# Altium footprint library SmartHome V3.PcbLib: 49 footprints (part 2 of 4)
Each footprint in its own frame and in the unit in brackets; x right, y up, seen from the top. Pads: shape width x height; smd on the part's side, far side on the other; paste and mask are expansions set on the pad; w line width, h text height; cw(c..) or ccw(c..) is an arc to the next point about the centre after c.
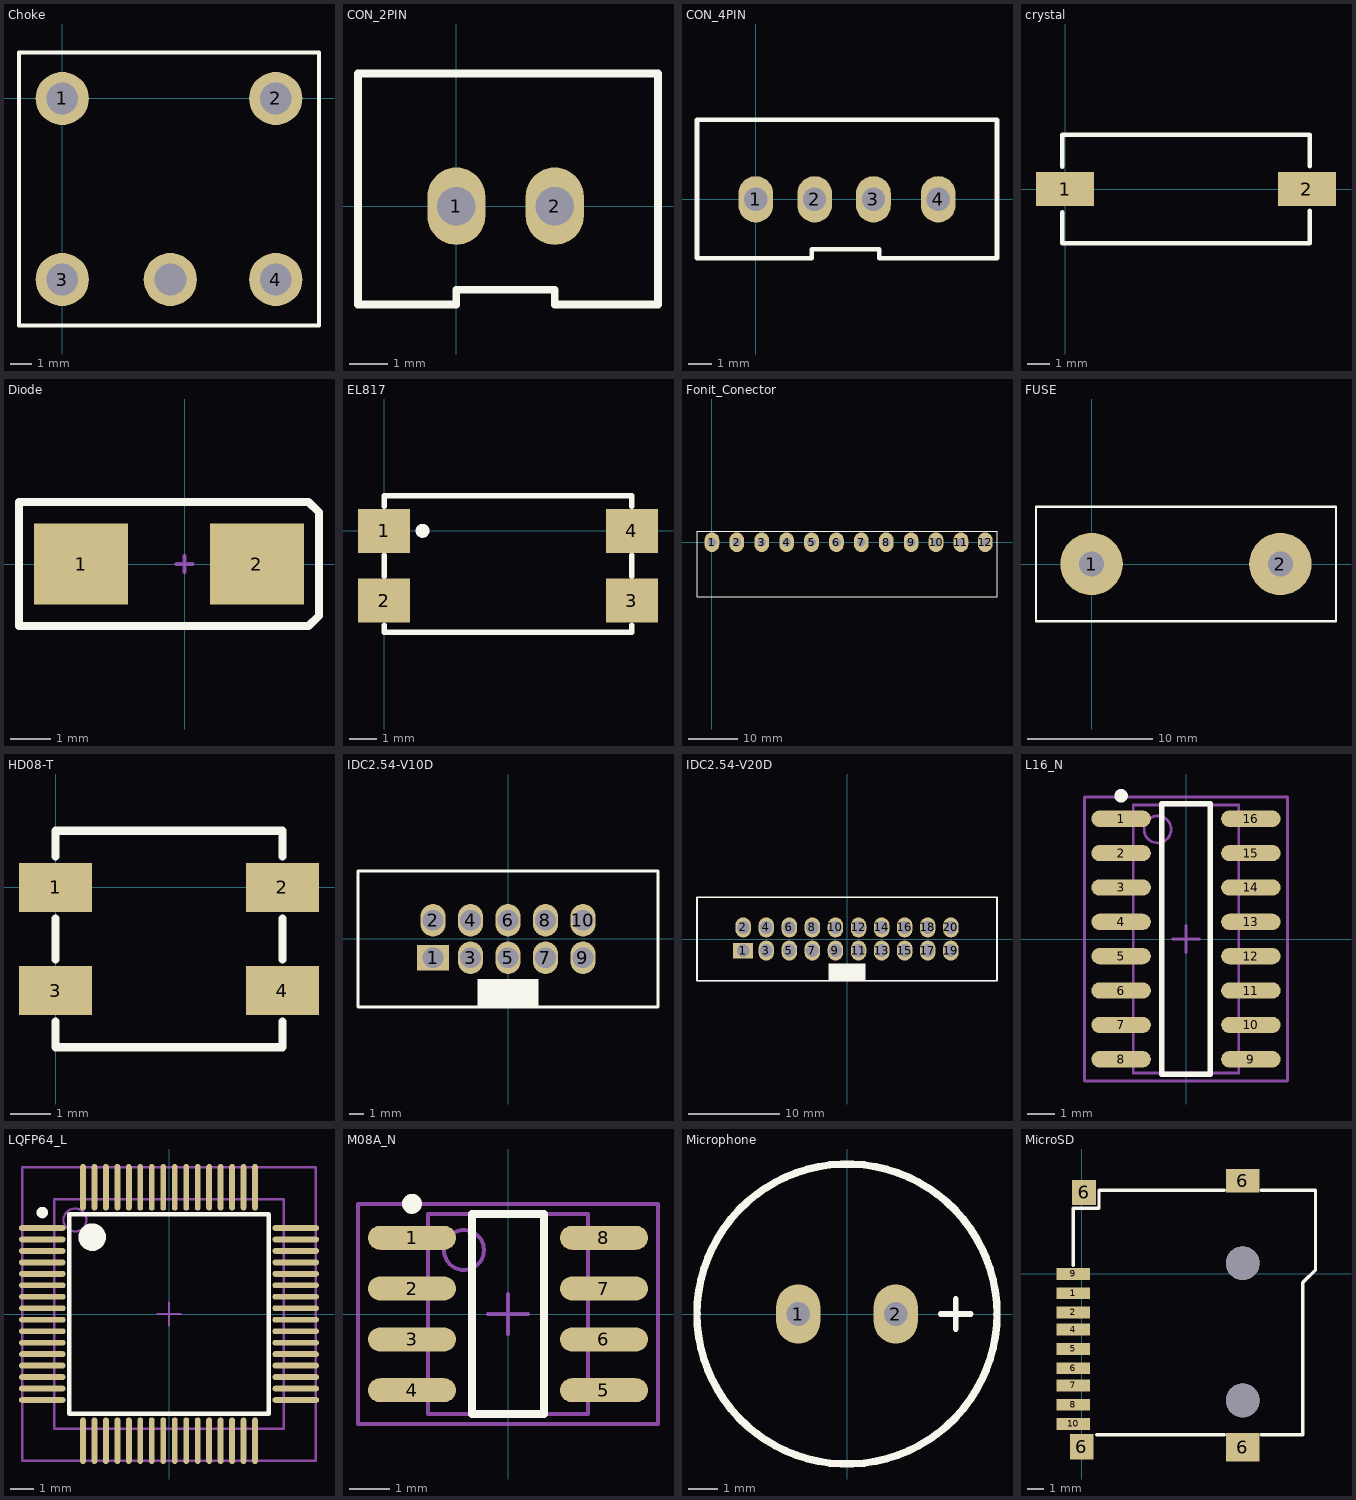
[diagram p1: the footprints below, top view; thin cyan lines are the x and y axes]

## Choke [mm]
pads (5):
  round 2.5 hole 1.5: 1(0,0) 2(10.033,0) 3(0,-8.509) 4(10.033,-8.509) ""(5.08,-8.509)
Top Overlay:
  lines w0.2: -2.032,-10.668 -2.032,2.159 12.065,2.159 12.065,-10.668 -2.032,-10.668

## CON_2PIN [mm]
pads (2):
  oval 1.5x2 hole 1: 1(0,0) 2(2.54,0)
Top Overlay:
  lines w0.2: -2.54,-2.54 -2.54,3.429 5.207,3.429 5.207,-2.54 2.54,-2.54 2.54,-2.159 0,-2.159 0,-2.54 -2.54,-2.54

## CON_4PIN [mm]
pads (4):
  oval 1.5x2 hole 1: 1(0,0) 2(2.54,0) 3(5.08,0) 4(7.874,0)
Top Overlay:
  lines w0.2: -2.54,-2.54 2.413,-2.54 2.413,-2.159 5.334,-2.159 5.334,-2.54 10.414,-2.54 10.414,3.429 -2.54,3.429 -2.54,-2.54

## crystal [mm]
pads (2):
  rect 2.6x1.5 smd: 1(0,0) 2(10.8,0)
Top Overlay:
  lines w0.2: -0.127,-1.036 -0.127,-2.413 10.922,-2.413 10.922,-0.975 ; -0.127,1 -0.127,2.413 10.922,2.413 10.922,1.016

## Diode [mm] "DO-214-AA/SMB; 2 C-Bend Leads; Body 5.3 x 3.6 mm, inc. leads (LxW)"
height 2.54
pads (2):
  rect 2.3x2 smd: 1(-2.54,0) 2(1.778,0)
Top Overlay:
  lines w0.2: -4.064,-1.524 -4.064,1.524 3.048,1.524 3.302,1.27 3.302,-1.27 3.048,-1.524 -4.064,-1.524
Mechanical 1:
  lines w0.1: -0.2,0 0.2,0 ; 0,-0.2 0,0.2

## EL817 [mm]
pads (4):
  rect 1.9x1.6 smd: 1(0,0) 2(0,-2.54) 3(9.017,-2.54) 4(9.017,0)
Top Overlay:
  circle w0.254: c1.397,0 r0.127
  lines w0.2: 0,-3.429 0,-3.683 9.017,-3.683 9.017,-3.429 ; 0,-1.651 0,-0.889 ; 0,0.889 0,1.27 9.017,1.27 9.017,0.889 ; 9.017,-1.651 9.017,-0.889

## Fonit_Conector [mm]
pads (12):
  oval 3x4 hole 1.8: 1(0,0) 2(5.08,0) 3(10.16,0) 4(15.24,0) 5(20.32,0) 6(25.4,0) 7(30.48,0) 8(35.56,0) 9(40.64,0) 10(45.72,0) 11(50.8,0) 12(55.753,0)
Top Overlay:
  lines w0.2: -3.048,-11.176 -3.048,2.286 2.159,2.286 58.166,2.286 58.166,-11.176 -3.048,-11.176

## FUSE [mm]
pads (2):
  round 5 hole 2: 1(0,0) 2(15.113,0)
Top Overlay:
  lines w0.2: -4.445,-4.572 19.558,-4.572 19.558,4.572 -4.445,4.572 -4.445,-4.572

## HD08-T [mm]
pads (4):
  rect 1.8x1.2 smd: 1(0,0) 2(5.588,0) 3(0,-2.54) 4(5.588,-2.54)
Top Overlay:
  lines w0.2: 0,-3.302 0,-3.937 5.588,-3.937 5.588,-3.302 ; 0,-1.778 0,-0.762 ; 0,0.762 0,1.397 5.588,1.397 5.588,0.762 ; 5.588,-1.778 5.588,-0.762

## IDC2.54-V10D [mm] "Connector; IDC, Low Profile Male Header, Thru-Hole; 10 Position; Vertical; Pitch 2.54 mm; Body 20.32 x 9.2 x 9.45 mm (LxWxH)"
height 9.45
pads (10):
  rect 2.2x1.7 hole 1.4: 1(-5.08,-1.27)
  oval 1.7x2.2 hole 1.4: 2(-5.08,1.27) 3(-2.54,-1.27) 4(-2.54,1.27) 5(0,-1.27) 6(0,1.27) 7(2.54,-1.27) 8(2.54,1.27) 9(5.08,-1.27) 10(5.08,1.27)
Top Overlay:
  rectangle: -2.05,-4.601 2.05,-2.701
  lines w0.2: -10.16,-4.6 -10.16,4.6 10.16,4.6 10.16,-4.6 -10.16,-4.6
Mechanical 13:
  lines w0.1: -10.16,-4.6 10.16,-4.6 10.16,4.6 -10.16,4.6 -10.16,-4.6
3D body: height 9.45, standoff 0, extent -10.16,-4.6 10.16,4.6

## IDC2.54-V20D [mm] "Connector; IDC, Low Profile Male Header, Thru-Hole; 20 Position; Vertical; Pitch 2.54 mm; Body 33.02 x 9.2 x 9.45 mm (LxWxH)"
height 9.45
pads (20):
  rect 2.2x1.7 hole 1.4: 1(-11.43,-1.27)
  oval 1.7x2.2 hole 1.4: 2(-11.43,1.27) 3(-8.89,-1.27) 4(-8.89,1.27) 5(-6.35,-1.27) 6(-6.35,1.27) 7(-3.81,-1.27) 8(-3.81,1.27) 9(-1.27,-1.27) 10(-1.27,1.27) 11(1.27,-1.27) 12(1.27,1.27) 13(3.81,-1.27) 14(3.81,1.27) 15(6.35,-1.27) 16(6.35,1.27) 17(8.89,-1.27) 18(8.89,1.27) 19(11.43,-1.27) 20(11.43,1.27)
Top Overlay:
  rectangle: -2.05,-4.6 2.05,-2.7
  lines w0.2: -16.51,-4.6 -16.51,4.6 16.51,4.6 16.51,-4.6 -16.51,-4.6
Mechanical 13:
  lines w0.1: -16.51,-4.6 -16.51,4.6 16.51,4.6 16.51,-4.6 -16.51,-4.6
3D body: height 9.45, standoff 0, extent -16.51,-4.6 16.51,4.6

## L16_N [mm] "SOIC, 16-Leads, Body 9.9x3.9mm, Pitch 1.27mm, IPC Medium Density"
height 1.75
pads (16):
  oval 2.2x0.6 smd: 1(-2.4,4.445) 2(-2.4,3.175) 3(-2.4,1.905) 4(-2.4,0.635) 5(-2.4,-0.635) 6(-2.4,-1.905) 7(-2.4,-3.175) 8(-2.4,-4.445) 9(2.4,-4.445) 10(2.4,-3.175) 11(2.4,-1.905) 12(2.4,-0.635) 13(2.4,0.635) 14(2.4,1.905) 15(2.4,3.175) 16(2.4,4.445)
Top Overlay:
  circle w0.25: c-2.4,5.295 r0.125
  lines w0.2: -0.9,-5 -0.9,5 0.9,5 0.9,-5 -0.9,-5
Mechanical 13:
  circle w0.1: c-1.05,4.05 r0.5
  lines w0.1: -1.95,-4.95 -1.95,4.95 1.95,4.95 1.95,-4.95 -1.95,-4.95
Mechanical 15:
  lines w0.1: -0.5,0 0.5,0 ; 0,-0.5 0,0.5 ; -3.75,-5.25 -3.75,5.25 3.75,5.25 3.75,-5.25 -3.75,-5.25
3D body: height 1.75, standoff 0, extent -1.95,-4.95 1.95,4.95

## LQFP64_L [mm] "Thin QFP, 64-Leads, Body 10x10mm, Pitch 0.5mm, IPC High Density"
height 1.6
pads (64):
  oval 2.032x0.254 smd: 1(-5.525,3.75) 2(-5.525,3.25) 3(-5.525,2.75) 4(-5.525,2.25) 5(-5.525,1.75) 6(-5.525,1.25) 7(-5.525,0.75) 8(-5.525,0.25) 9(-5.525,-0.25) 10(-5.525,-0.75) 11(-5.525,-1.25) 12(-5.525,-1.75) 13(-5.525,-2.25) 14(-5.525,-2.75) 15(-5.525,-3.25) 16(-5.525,-3.75) 33(5.525,-3.75) 34(5.525,-3.25) 35(5.525,-2.75) 36(5.525,-2.25) 37(5.525,-1.75) 38(5.525,-1.25) 39(5.525,-0.75) 40(5.525,-0.25) 41(5.525,0.25) 42(5.525,0.75) 43(5.525,1.25) 44(5.525,1.75) 45(5.525,2.25) 46(5.525,2.75) 47(5.525,3.25) 48(5.525,3.75)
  oval 0.254x2.032 smd: 17(-3.75,-5.525) 18(-3.25,-5.525) 19(-2.75,-5.525) 20(-2.25,-5.525) 21(-1.75,-5.525) 22(-1.25,-5.525) 23(-0.75,-5.525) 24(-0.25,-5.525) 25(0.25,-5.525) 26(0.75,-5.525) 27(1.25,-5.525) 28(1.75,-5.525) 29(2.25,-5.525) 30(2.75,-5.525) 31(3.25,-5.525) 32(3.75,-5.525) 49(3.75,5.525) 50(3.25,5.525) 51(2.75,5.525) 52(2.25,5.525) 53(1.75,5.525) 54(1.25,5.525) 55(0.75,5.525) 56(0.25,5.525) 57(-0.25,5.525) 58(-0.75,5.525) 59(-1.25,5.525) 60(-1.75,5.525) 61(-2.25,5.525) 62(-2.75,5.525) 63(-3.25,5.525) 64(-3.75,5.525)
Top Overlay:
  circle w0.6: c-3.35,3.35 r0.3
  circle w0.25: c-5.525,4.425 r0.125
  lines w0.2: -4.35,-4.35 4.35,-4.35 4.35,4.35 -4.35,4.35 -4.35,-4.35
Mechanical 13:
  circle w0.1: c-4.1,4.1 r0.5
  lines w0.1: -5,-5 5,-5 5,5 -5,5 -5,-5
Mechanical 15:
  lines w0.1: -0.5,0 0.5,0 ; 0,-0.5 0,0.5 ; -6.4,-6.4 6.4,-6.4 6.4,6.4 -6.4,6.4 -6.4,-6.4
3D body: height 1.6, standoff 0, extent -5,-5 5,5

## M08A_N [mm] "SOIC, 8-Leads, Body 4.9x3.9mm, Pitch 1.27mm, IPC Medium Density"
height 1.75
pads (8):
  oval 2.2x0.6 smd: 1(-2.4,1.905) 2(-2.4,0.635) 3(-2.4,-0.635) 4(-2.4,-1.905) 5(2.4,-1.905) 6(2.4,-0.635) 7(2.4,0.635) 8(2.4,1.905)
Top Overlay:
  circle w0.25: c-2.4,2.755 r0.125
  lines w0.2: -0.9,-2.5 0.9,-2.5 0.9,2.5 -0.9,2.5 -0.9,-2.5
Mechanical 13:
  circle w0.1: c-1.1,1.6 r0.5
  lines w0.1: -2,-2.5 -2,2.5 2,2.5 2,-2.5 -2,-2.5
Mechanical 15:
  lines w0.1: -0.5,0 0.5,0 ; 0,-0.5 0,0.5 ; -3.75,-2.75 -3.75,2.75 3.75,2.75 3.75,-2.75 -3.75,-2.75
3D body: height 1.75, standoff 0, extent -2,-2.5 2,2.5

## Microphone [mm]
pads (2):
  oval 1.5x2 hole 0.8: 1(-1.651,0) 2(1.651,0)
Top Overlay:
  circle w0.254: c0,0 r5.08
  lines w0.2: 3.175,0 4.191,0 ; 3.683,-0.508 3.683,0.508

## MicroSD [mm]
pads (15):
  rect 2x0.7 smd: 1(-0.508,-1.143) 2(-0.508,-2.286) 4(-0.508,-3.302) 5(-0.508,-4.445) 6(-0.508,-5.588) 7(-0.508,-6.604) 8(-0.508,-7.747) 9(-0.508,0) 10(-0.508,-8.89)
  rect 1.4x1.5 smd: 6(0,-10.236) 6(0.127,4.826)
  rect 2x1.7 smd: 6(9.525,-10.262)
  rect 2x1.4 smd: 6(9.525,5.512)
  round 2 hole 2: ""(9.525,-7.493) ""(9.525,0.635)
Top Overlay:
  lines w0.2: -0.508,0.508 -0.508,3.886 1.016,3.886 1.016,4.953 8.433,4.953 ; 0.889,-9.525 8.433,-9.525 ; 10.617,-9.525 13.081,-9.525 13.081,-1.778 13.081,-0.508 13.843,0.254 ; 10.617,4.953 13.843,4.953 13.843,0.254 ; 13.843,0.381 13.843,0.254